# Altium schematic symbol library FAN2012.SchLib: 1 symbol
Pins are listed as number, name and electrical type; pins without a type are passive.

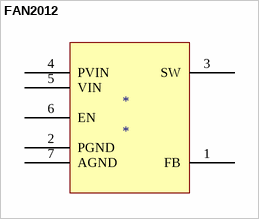
[diagram p0: symbol FAN2012]

## FAN2012
designator *
footprint MLP-6-LEAD-3X3mm
pins: 1 FB, 2 PGND, 3 SW, 4 PVIN, 5 VIN, 6 EN, 7 AGND